# Altium footprint library PcbLib_Course_Mitr.PcbLib: 14 footprints
Each footprint in its own frame and in the unit in brackets; x right, y up, seen from the top. Pads: shape width x height; smd on the part's side, far side on the other; paste and mask are expansions set on the pad; w line width, h text height; cw(c..) or ccw(c..) is an arc to the next point about the centre after c.
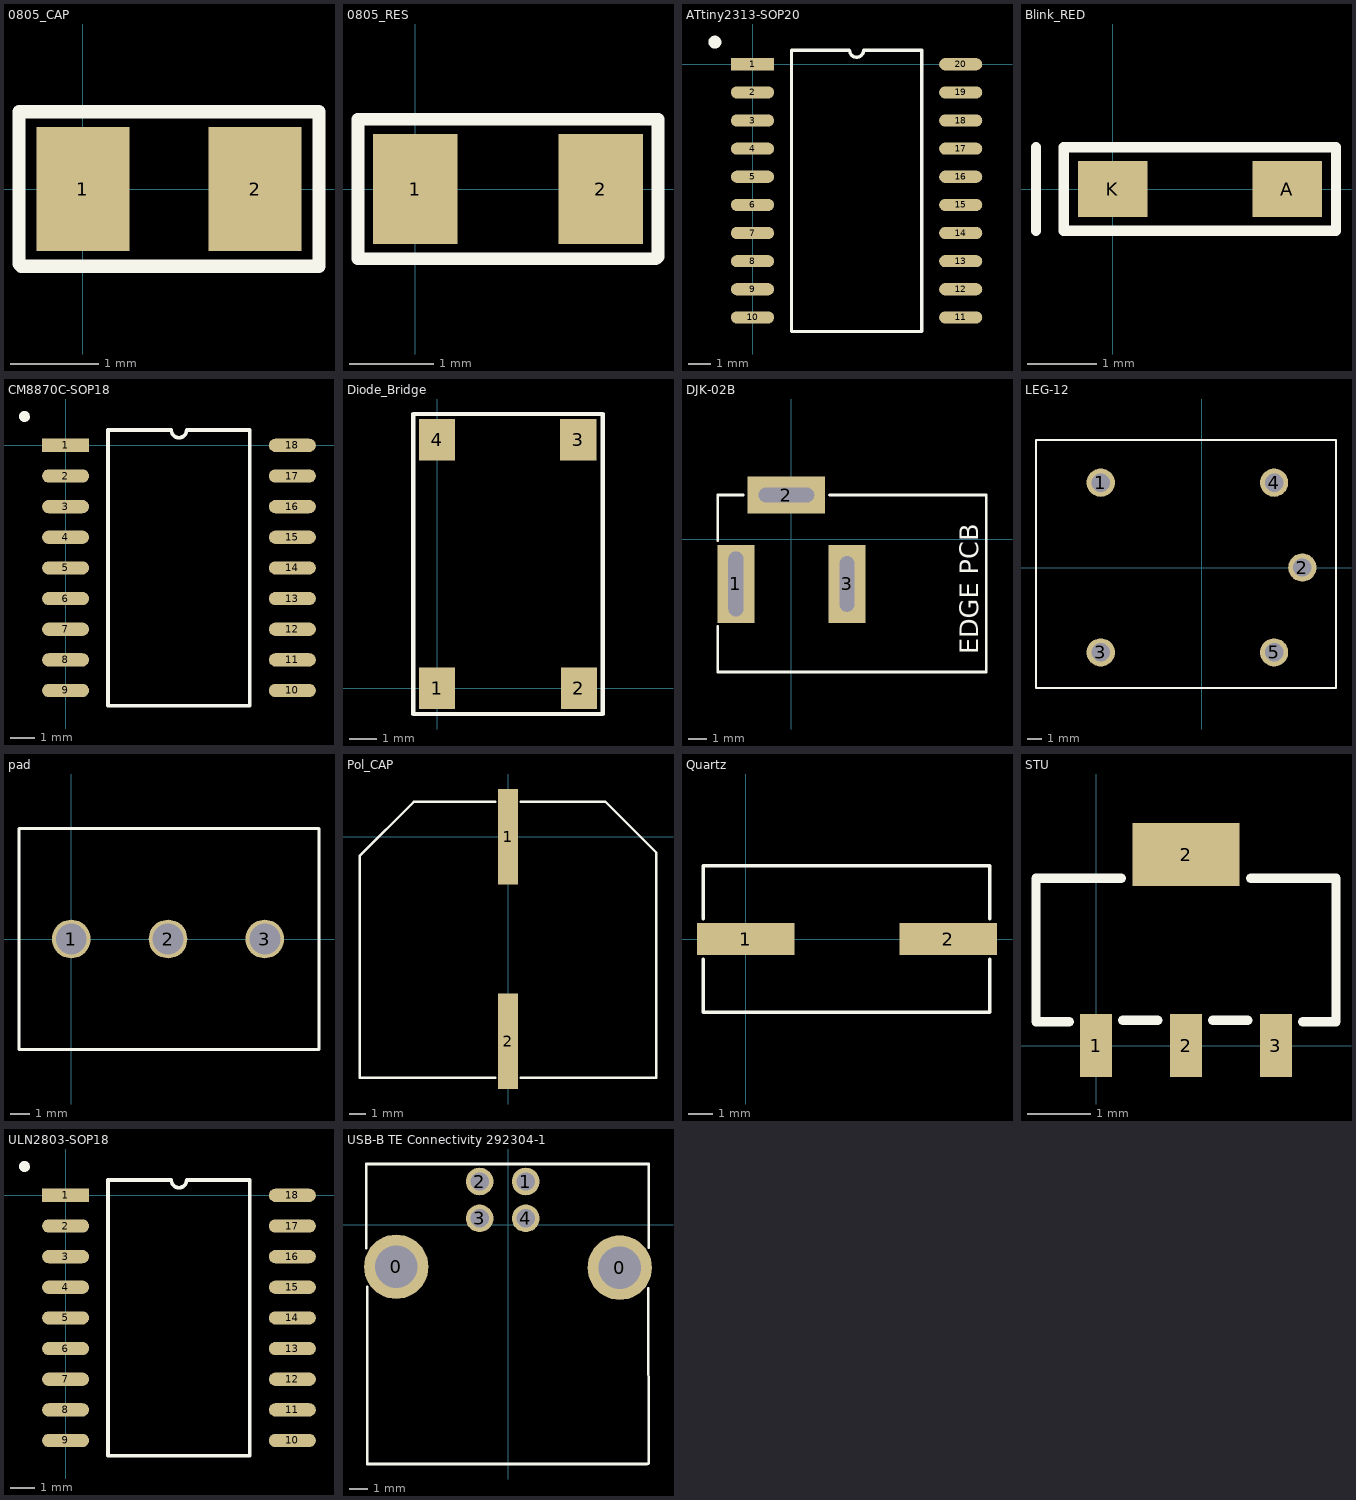
[diagram p0: the footprints below, top view; thin cyan lines are the x and y axes]

## 0805_CAP [mm]
pads (2):
  rect 1.05x1.4 smd: 1(0,0) 2(1.95,0)
Top Overlay:
  lines w0.15: -0.725,-0.85 -0.725,0.875 2.675,0.875 2.675,-0.875 -0.7,-0.875

## 0805_RES [mm]
height 0.55
pads (2):
  rect 1x1.3 smd: 1(0,0) 2(2.2,0)
Top Overlay:
  lines w0.15: -0.675,-0.825 -0.675,0.825 2.875,0.825 2.875,-0.8 2.85,-0.825 -0.675,-0.825
3D body "res_0805.step": height 0.5, standoff 0, extent 0,-0.6 2,0.6

## ATtiny2313-SOP20 [mm]
pads (20):
  rect 1.95x0.55 smd: 1(0,0)
  oval 1.95x0.55 smd: 2(0,-1.27) 3(0,-2.54) 4(0,-3.81) 5(0,-5.08) 6(0,-6.35) 7(0,-7.62) 8(0,-8.89) 9(0,-10.16) 10(0,-11.43) 11(9.4,-11.43) 12(9.4,-10.16) 13(9.4,-8.89) 14(9.4,-7.62) 15(9.4,-6.35) 16(9.4,-5.08) 17(9.4,-3.81) 18(9.4,-2.54) 19(9.4,-1.27) 20(9.4,0)
Top Overlay:
  circle w0.3: c-1.7,1 r0.141
  lines w0.15: 1.76,-12.065 1.76,0.635 4.382,0.635 ccw(c4.7,0.635) 5.017,0.635 7.64,0.635 7.64,-12.065 1.76,-12.065

## Blink_RED [mm]
pads (2):
  rect 1x0.8 smd: A(2.5,0) K(0,0)
Top Overlay:
  lines w0.15: -1.1,-0.6 -1.1,0.6 ; -0.7,-0.6 3.2,-0.6 3.2,0.6 -0.7,0.6 -0.7,-0.6

## CM8870C-SOP18 [mm]
pads (18):
  rect 1.95x0.55 smd: 1(0,0)
  oval 1.95x0.55 smd: 2(0,-1.27) 3(0,-2.54) 4(0,-3.81) 5(0,-5.08) 6(0,-6.35) 7(0,-7.62) 8(0,-8.89) 9(0,-10.16) 10(9.4,-10.16) 11(9.4,-8.89) 12(9.4,-7.62) 13(9.4,-6.35) 14(9.4,-5.08) 15(9.4,-3.81) 16(9.4,-2.54) 17(9.4,-1.27) 18(9.4,0)
Top Overlay:
  lines w0.15: 1.76,-10.795 7.64,-10.795 7.64,0.635 5.017,0.635 cw(c4.7,0.635) 4.382,0.635 1.76,0.635 1.76,-10.795
  lines w0.254: -1.617,1.255 ccw(c-1.7,1.2) -1.6,1.2

## Diode_Bridge [mm]
pads (4):
  rect 1.3x1.5 smd: 1(0,0) 2(5.1,0) 3(5.075,8.925) 4(0,8.925)
Top Overlay:
  lines w0.15: -0.85,-0.925 -0.85,9.85 5.95,9.85 5.95,-0.925 -0.85,-0.925

## DJK-02B [mm]
height 15.3
pads (3):
  rect 2x4.2 hole 0.8 slot 3.5 at 90 deg: 1(-3,-2.4)
  rect 4.2x2 hole 0.8 slot 3 at 0 deg: 2(-0.275,2.4)
  rect 2x4.2 hole 0.8 slot 3 at 90 deg: 3(3,-2.4)
Top Overlay:
  lines w0.15: -3.975,-4.7 -3.975,-7.15 10.525,-7.15 10.525,2.4 2.05,2.4 ; -3.975,-0.075 -3.975,2.4 -2.6,2.4
  text "EDGE PCB" at 10.1,-6.2 h1
3D body "DJK-02B (DS-261A).step": height 11, standoff -3.5, extent -3.975,-6.925 10.425,2.375

## LEG-12 [mm]
pads (5):
  round 2 hole 1.3: 1(-7.125,6) 2(7.125,0) 3(-7.125,-6) 4(5.125,6) 5(5.125,-6)
Top Overlay:
  lines w0.15: -11.7,-8.5 9.5,-8.5 9.5,9 -11.7,9 -11.7,-8.5
3D body "NT73(JQC-3FC).stp": height 16.5, standoff -3.5, extent -11.05,-8.05 8.45,8.45

## pad [mm]
pads (3):
  round 2 hole 1.6: 1(0,0) 2(5,0) 3(10,0)
Top Overlay:
  lines w0.15: -2.7,-5.7 -2.7,5.7 12.8,5.7 12.8,-5.7 0.7,-5.7 -2.7,-5.7
3D body "EHK2V-03P.stp": height 18, standoff -4, extent -2.54,-5.6 12.7,5.6

## Pol_CAP [mm]
pads (2):
  rect 1.25x6 smd: 1(0,0) 2(0,-12.8)
Top Overlay:
  lines w0.15: -0.8,-15.1 -9.3,-15.1 -9.3,-1.2 -5.9,2.2 -0.8,2.2 ; 0.8,-15.1 9.3,-15.1 9.3,-1.2 9.3,-1 6.1,2.2 0.8,2.2
3D body "capae-16.3x16.3h16.5.step": height 16.5, standoff 0, extent -8.05,-15.1 8.25,1.9

## Quartz [mm]
pads (2):
  rect 4x1.3 smd: 1(0,0) 2(8.3,0)
Top Overlay:
  lines w0.15: -1.75,-0.825 -1.75,-3 10,-3 10,-0.825 ; -1.75,0.825 -1.75,3 10,3 10,0.825

## STU [mm]
pads (4):
  rect 0.5x1 smd: 1(0,0) 2(1.425,0) 3(2.85,0)
  rect 1.7x1 smd: 2(1.425,3.025)
Top Overlay:
  lines w0.15: -0.425,0.375 -0.95,0.375 -0.95,2.65 0.4,2.65 ; 0.425,0.4 0.975,0.4 ; 1.85,0.4 2.4,0.4 ; 2.45,2.65 3.8,2.65 3.8,0.375 3.275,0.375

## ULN2803-SOP18 [mm]
pads (18):
  rect 1.95x0.55 smd: 1(0,0)
  oval 1.95x0.55 smd: 2(0,-1.27) 3(0,-2.54) 4(0,-3.81) 5(0,-5.08) 6(0,-6.35) 7(0,-7.62) 8(0,-8.89) 9(0,-10.16) 10(9.4,-10.16) 11(9.4,-8.89) 12(9.4,-7.62) 13(9.4,-6.35) 14(9.4,-5.08) 15(9.4,-3.81) 16(9.4,-2.54) 17(9.4,-1.27) 18(9.4,0)
Top Overlay:
  lines w0.15: 1.76,-10.795 7.64,-10.795 7.64,0.635 5.017,0.635 cw(c4.7,0.635) 4.382,0.635 1.76,0.635 1.76,-10.795
  lines w0.254: -1.617,1.255 ccw(c-1.7,1.2) -1.6,1.2

## USB-B TE Connectivity 292304-1 [mm]
height 11.5
pads (6):
  round 3.5 hole 2.3: 0(-6.062,-2.287) 0(6.062,-2.337)
  round 1.5 hole 1: 1(0.962,2.338) 2(-1.538,2.338) 3(-1.538,0.337) 4(0.962,0.337)
Top Overlay:
  lines w0.15: -7.688,-1.262 -7.688,3.288 7.637,3.288 7.637,-1.237 ; -7.638,-3.387 -7.638,-12.988 7.517,-12.988 ccw(c7.517,-12.817) 7.638,-12.938 ; 7.612,-3.463 7.637,-12.938
3D body "USB-B TE Connectivity 292304-1.stp": height 11.6, standoff -3.82, extent -7.308,-12.437 7.083,3.263